# EAGLE library part LTC4231 (library Marvin)
Micropower Hot Swap Controller
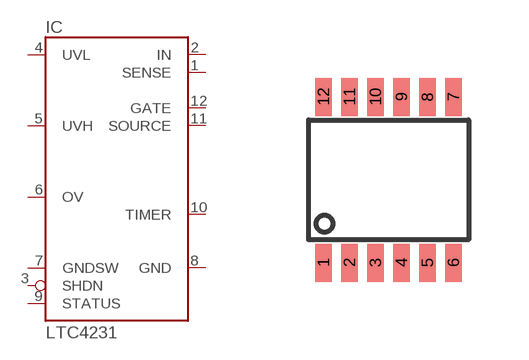
[diagram p10: symbol with the pads of MSOP-12; footprint MSOP-12]

Designator prefix IC

## LTC4231  [MSOP-12]
1  SENSE
2  IN
3  SHDN
4  UVL
5  UVH
6  OV
7  GNDSW
8  GND
9  STATUS
10  TIMER
11  SOURCE
12  GATE

## Footprint MSOP-12 (pad centres in mm)
MSOP-12 Package Reference LTC DWG # 05-08-1668 Rev A
smd 0.42 x 0.95: 1 -1.625,-2.075; 2 -0.975,-2.075; 3 -0.325,-2.075; 4 0.325,-2.075; 5 0.975,-2.075; 6 1.625,-2.075; 7 1.625,2.075; 8 0.975,2.075; 9 0.325,2.075; 10 -0.325,2.075; 11 -0.975,2.075; 12 -1.625,2.075